# Altium schematic symbol library NMA0505SC.Schlib: 1 symbol
Pins are listed as number, name and electrical type; pins without a type are passive.

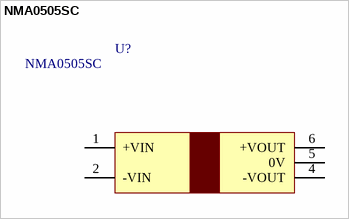
[diagram p0: symbol NMA0505SC]

## NMA0505SC
designator U?
Isolated Module DC DC Converter 2 Output 5V -5V 100mA, 100mA 4.5V - 5.5V Input
pins: 1 +VIN, 2 -VIN, 4 -VOUT, 5 0V, 6 +VOUT